# EAGLE library part 4066 (library Skoba)
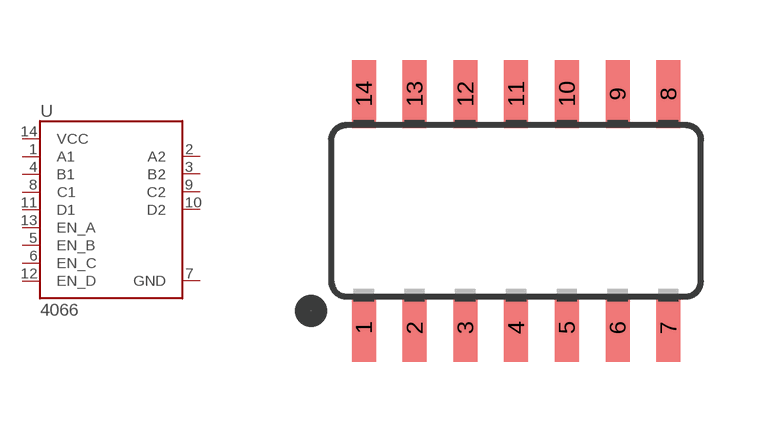
[diagram p39: symbol with the pads of SO14; footprint SO14]

Designator prefix U

## 4066SOIC  [SO14]
1  A1
2  A2
3  B2
4  B1
5  EN_B
6  EN_C
7  GND
8  C1
9  C2
10  D2
11  D1
12  EN_D
13  EN_A
14  VCC

## Footprint SO14 (pad centres in mm)
smd 0.6 x 1.7: 1 -3.175,-2.925; 2 -1.905,-2.925; 3 -0.635,-2.925; 4 0.635,-2.925; 5 1.905,-2.925; 6 3.175,-2.925; 7 4.445,-2.925; 8 4.445,2.925; 9 3.175,2.925; 10 1.905,2.925; 11 0.635,2.925; 12 -0.635,2.925; 13 -1.905,2.925; 14 -3.175,2.925